# Altium footprint library 排针-排母.PcbLib: 215 footprints (part 3 of 14)
Each footprint in its own frame and in the unit in brackets; x right, y up, seen from the top. Pads: shape width x height; smd on the part's side, far side on the other; paste and mask are expansions set on the pad; w line width, h text height; cw(c..) or ccw(c..) is an arc to the next point about the centre after c.
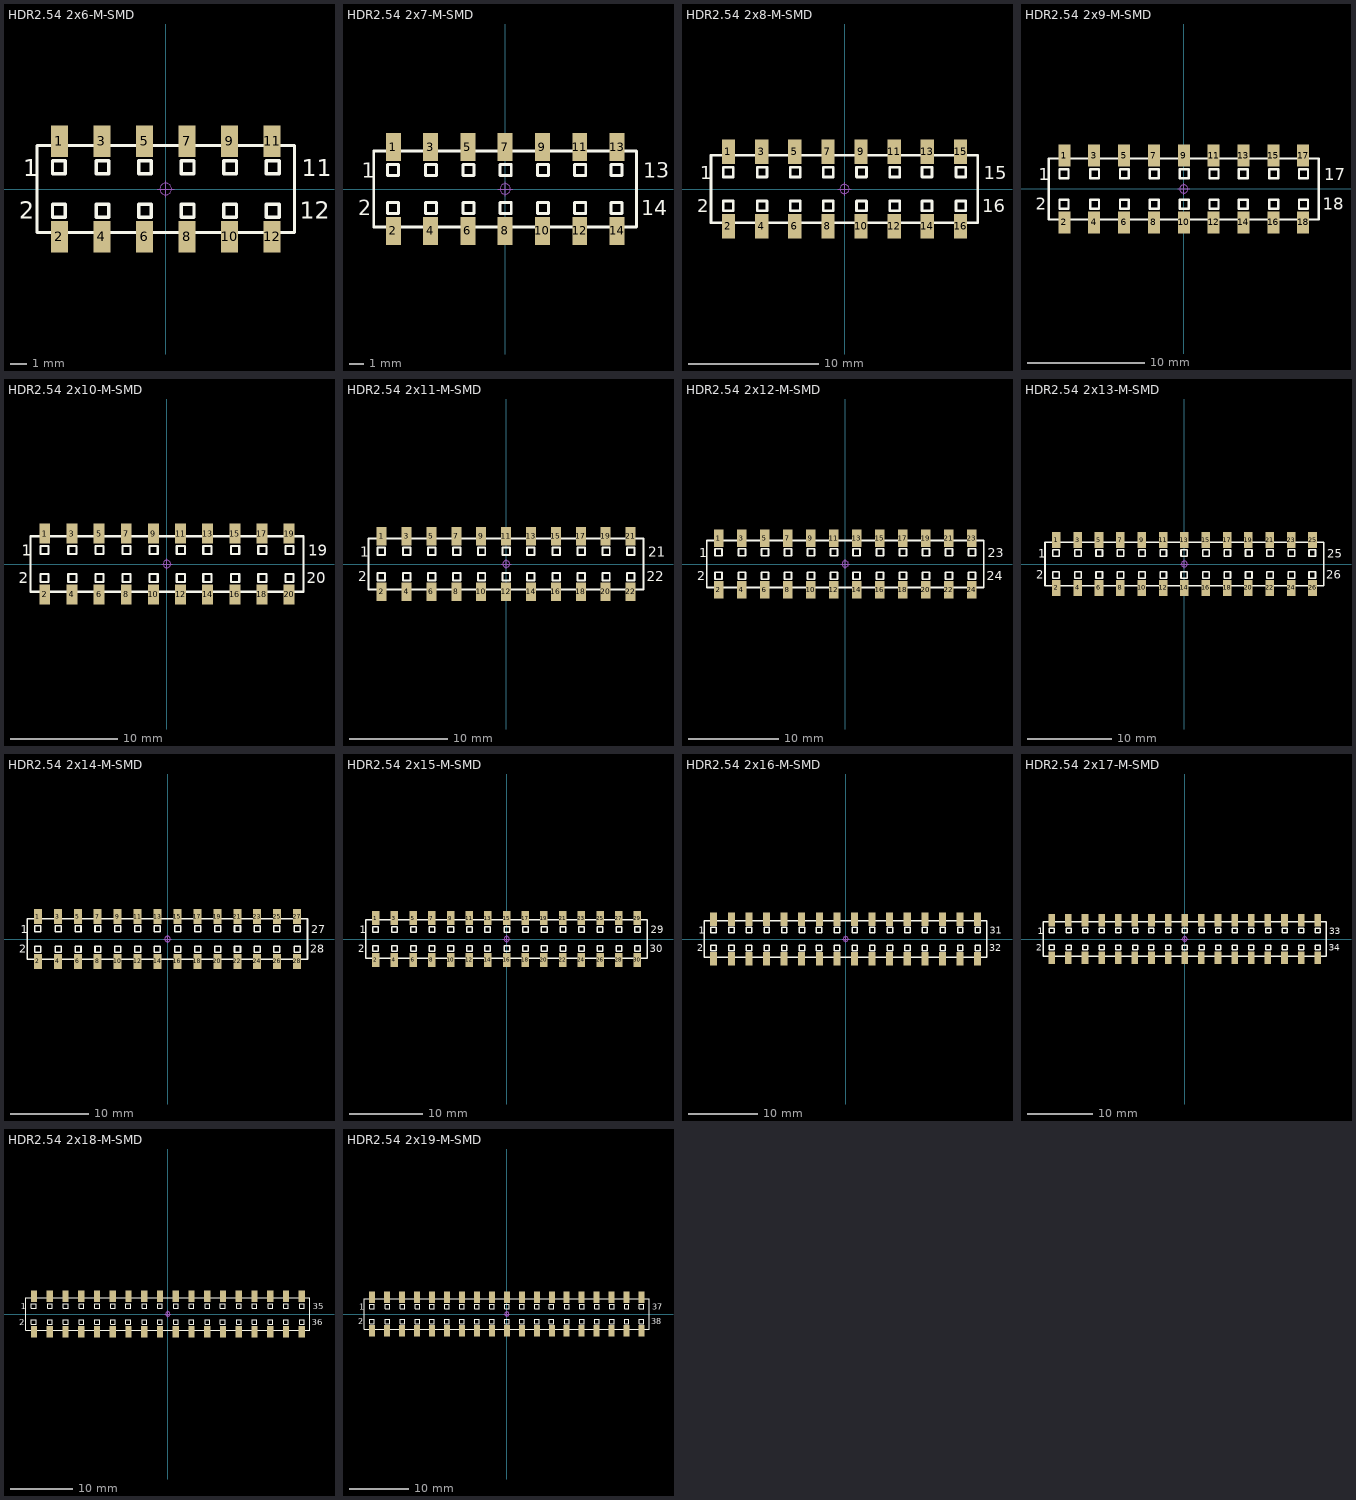
[diagram p2: the footprints below, top view; thin cyan lines are the x and y axes]

## HDR2.54 2x6-M-SMD [mm] "脚距：2.54mm，贴片双排母"
pads (12):
  rect 1.02x1.9 smd: 1(-6.35,2.85) 2(-6.35,-2.85) 3(-3.81,2.85) 4(-3.81,-2.85) 5(-1.27,2.85) 6(-1.27,-2.85) 7(1.27,2.85) 8(1.27,-2.85) 9(3.81,2.85) 10(3.81,-2.85) 11(6.35,2.85) 12(6.35,-2.85)
Top Overlay:
  lines w0.2: -7.69,-2.6 7.68,-2.6 7.68,2.6 -7.69,2.6 -7.69,-2.6 ; -6.761,-1.681 -5.999,-1.681 -5.999,-0.919 -6.761,-0.919 -6.761,-1.681 ; -6.761,0.919 -5.999,0.919 -5.999,1.681 -6.761,1.681 -6.761,0.919 ; -4.161,-1.681 -3.399,-1.681 -3.399,-0.919 -4.161,-0.919 -4.161,-1.681 ; -4.161,0.919 -3.399,0.919 -3.399,1.681 -4.161,1.681 -4.161,0.919 ; -1.621,-1.681 -1.621,-0.919 -0.859,-0.919 -0.859,-1.681 -1.621,-1.681 ; -1.621,0.919 -1.621,1.681 -0.859,1.681 -0.859,0.919 -1.621,0.919 ; 0.919,-1.681 1.681,-1.681 1.681,-0.919 0.919,-0.919 0.919,-1.681 ; 0.919,0.919 1.681,0.919 1.681,1.681 0.919,1.681 0.919,0.919 ; 3.459,-1.681 4.221,-1.681 4.221,-0.919 3.459,-0.919 3.459,-1.681 ; 3.459,0.919 4.221,0.919 4.221,1.681 3.459,1.681 3.459,0.919 ; 5.999,-1.681 6.761,-1.681 6.761,-0.919 5.999,-0.919 5.999,-1.681 ; 5.999,0.919 6.761,0.919 6.761,1.681 5.999,1.681 5.999,0.919
  text "2" at -8.763,-1.778 h1.02
  text "1" at -8.509,0.762 h1.02
  text "11" at 8.128,0.762 h1.02
  text "12" at 8.001,-1.778 h1.02
Mechanical 15:
  circle w0.05: c0,0 r0.35
  lines w0.05: -0.5,0 0.5,0 ; 0,-0.5 0,0.5
3D body "HDR2.54 2x1P_M.STEP": height 5.15, standoff 0, extent 5.05,-3.2 7.65,3.2
3D body "HDR2.54 2x1P_M.STEP": height 5.15, standoff 0, extent 2.51,-3.2 5.11,3.2
3D body "HDR2.54 2x1P_M.STEP": height 5.15, standoff 0, extent -0.03,-3.2 2.57,3.2
3D body "HDR2.54 2x1P_M.STEP": height 5.15, standoff 0, extent -7.65,-3.2 -5.05,3.2
3D body "HDR2.54 2x1P_M.STEP": height 5.15, standoff 0, extent -5.11,-3.2 -2.51,3.2
3D body "HDR2.54 2x1P_M.STEP": height 5.15, standoff 0, extent -2.57,-3.2 0.03,3.2

## HDR2.54 2x7-M-SMD [mm] "脚距：2.54mm，贴片双排母"
pads (14):
  rect 1.02x1.9 smd: 1(-7.62,2.85) 2(-7.62,-2.85) 3(-5.08,2.85) 4(-5.08,-2.85) 5(-2.54,2.85) 6(-2.54,-2.85) 7(0,2.85) 8(0,-2.85) 9(2.54,2.85) 10(2.54,-2.85) 11(5.08,2.85) 12(5.08,-2.85) 13(7.62,2.85) 14(7.62,-2.85)
Top Overlay:
  lines w0.2: -8.96,-2.6 -8.96,2.6 8.95,2.6 8.95,-2.6 -8.96,-2.6 ; -8.031,-1.681 -7.269,-1.681 -7.269,-0.919 -8.031,-0.919 -8.031,-1.681 ; -8.031,0.919 -7.269,0.919 -7.269,1.681 -8.031,1.681 -8.031,0.919 ; -5.431,-1.681 -4.669,-1.681 -4.669,-0.919 -5.431,-0.919 -5.431,-1.681 ; -5.431,0.919 -4.669,0.919 -4.669,1.681 -5.431,1.681 -5.431,0.919 ; -2.891,-1.681 -2.891,-0.919 -2.129,-0.919 -2.129,-1.681 -2.891,-1.681 ; -2.891,0.919 -2.891,1.681 -2.129,1.681 -2.129,0.919 -2.891,0.919 ; -0.351,-1.681 0.411,-1.681 0.411,-0.919 -0.351,-0.919 -0.351,-1.681 ; -0.351,0.919 0.411,0.919 0.411,1.681 -0.351,1.681 -0.351,0.919 ; 2.189,-1.681 2.951,-1.681 2.951,-0.919 2.189,-0.919 2.189,-1.681 ; 2.189,0.919 2.951,0.919 2.951,1.681 2.189,1.681 2.189,0.919 ; 4.729,-1.681 5.491,-1.681 5.491,-0.919 4.729,-0.919 4.729,-1.681 ; 4.729,0.919 5.491,0.919 5.491,1.681 4.729,1.681 4.729,0.919 ; 7.209,-1.681 7.209,-0.919 7.971,-0.919 7.971,-1.681 7.209,-1.681 ; 7.209,0.919 7.209,1.681 7.971,1.681 7.971,0.919 7.209,0.919
  text "14" at 9.271,-1.778 h1.02
  text "13" at 9.398,0.762 h1.02
  text "2" at -10.033,-1.778 h1.02
  text "1" at -9.779,0.762 h1.02
Mechanical 15:
  circle w0.05: c0,0 r0.35
  lines w0.05: -0.5,0 0.5,0 ; 0,-0.5 0,0.5
3D body "HDR2.54 2x1P_M.STEP": height 5.15, standoff 0, extent 6.32,-3.2 8.92,3.2
3D body "HDR2.54 2x1P_M.STEP": height 5.15, standoff 0, extent 3.78,-3.2 6.38,3.2
3D body "HDR2.54 2x1P_M.STEP": height 5.15, standoff 0, extent 1.24,-3.2 3.84,3.2
3D body "HDR2.54 2x1P_M.STEP": height 5.15, standoff 0, extent -1.3,-3.2 1.3,3.2
3D body "HDR2.54 2x1P_M.STEP": height 5.15, standoff 0, extent -8.92,-3.2 -6.32,3.2
3D body "HDR2.54 2x1P_M.STEP": height 5.15, standoff 0, extent -6.38,-3.2 -3.78,3.2
3D body "HDR2.54 2x1P_M.STEP": height 5.15, standoff 0, extent -3.84,-3.2 -1.24,3.2

## HDR2.54 2x8-M-SMD [mm] "脚距：2.54mm，贴片双排母"
pads (16):
  rect 1.02x1.9 smd: 1(-8.89,2.85) 2(-8.89,-2.85) 3(-6.35,2.85) 4(-6.35,-2.85) 5(-3.81,2.85) 6(-3.81,-2.85) 7(-1.27,2.85) 8(-1.27,-2.85) 9(1.27,2.85) 10(1.27,-2.85) 11(3.81,2.85) 12(3.81,-2.85) 13(6.35,2.85) 14(6.35,-2.85) 15(8.89,2.85) 16(8.89,-2.85)
Top Overlay:
  lines w0.2: -10.23,-2.6 -10.23,2.6 10.22,2.6 10.22,-2.6 -10.23,-2.6 ; -9.301,-1.681 -9.301,-0.919 -8.539,-0.919 -8.539,-1.681 -9.301,-1.681 ; -9.301,0.919 -9.301,1.681 -8.539,1.681 -8.539,0.919 -9.301,0.919 ; -6.701,-1.681 -6.701,-0.919 -5.939,-0.919 -5.939,-1.681 -6.701,-1.681 ; -6.701,0.919 -6.701,1.681 -5.939,1.681 -5.939,0.919 -6.701,0.919 ; -4.161,-1.681 -3.399,-1.681 -3.399,-0.919 -4.161,-0.919 -4.161,-1.681 ; -4.161,0.919 -3.399,0.919 -3.399,1.681 -4.161,1.681 -4.161,0.919 ; -1.621,-1.681 -1.621,-0.919 -0.859,-0.919 -0.859,-1.681 -1.621,-1.681 ; -1.621,0.919 -1.621,1.681 -0.859,1.681 -0.859,0.919 -1.621,0.919 ; 0.919,-1.681 0.919,-0.919 1.681,-0.919 1.681,-1.681 0.919,-1.681 ; 0.919,0.919 0.919,1.681 1.681,1.681 1.681,0.919 0.919,0.919 ; 3.459,-1.681 3.459,-0.919 4.221,-0.919 4.221,-1.681 3.459,-1.681 ; 3.459,0.919 3.459,1.681 4.221,1.681 4.221,0.919 3.459,0.919 ; 5.939,-1.681 6.701,-1.681 6.701,-0.919 5.939,-0.919 5.939,-1.681 ; 5.939,0.919 6.701,0.919 6.701,1.681 5.939,1.681 5.939,0.919 ; 8.539,-1.681 9.301,-1.681 9.301,-0.919 8.539,-0.919 8.539,-1.681 ; 8.539,0.919 9.301,0.919 9.301,1.681 8.539,1.681 8.539,0.919
  text "16" at 10.541,-1.778 h1.02
  text "15" at 10.668,0.762 h1.02
  text "1" at -11.049,0.762 h1.02
  text "2" at -11.303,-1.778 h1.02
Mechanical 15:
  circle w0.05: c0,0 r0.35
  lines w0.05: -0.5,0 0.5,0 ; 0,-0.5 0,0.5
3D body "HDR2.54 2x1P_M.STEP": height 5.15, standoff 0, extent -5.11,-3.2 -2.51,3.2
3D body "HDR2.54 2x1P_M.STEP": height 5.15, standoff 0, extent -7.65,-3.2 -5.05,3.2
3D body "HDR2.54 2x1P_M.STEP": height 5.15, standoff 0, extent -10.19,-3.2 -7.59,3.2
3D body "HDR2.54 2x1P_M.STEP": height 5.15, standoff 0, extent -2.57,-3.2 0.03,3.2
3D body "HDR2.54 2x1P_M.STEP": height 5.15, standoff 0, extent -0.03,-3.2 2.57,3.2
3D body "HDR2.54 2x1P_M.STEP": height 5.15, standoff 0, extent 2.51,-3.2 5.11,3.2
3D body "HDR2.54 2x1P_M.STEP": height 5.15, standoff 0, extent 5.05,-3.2 7.65,3.2
3D body "HDR2.54 2x1P_M.STEP": height 5.15, standoff 0, extent 7.59,-3.2 10.19,3.2

## HDR2.54 2x9-M-SMD [mm] "脚距：2.54mm，贴片双排母"
pads (18):
  rect 1.02x1.9 smd: 1(-10.16,2.85) 2(-10.16,-2.85) 3(-7.62,2.85) 4(-7.62,-2.85) 5(-5.08,2.85) 6(-5.08,-2.85) 7(-2.54,2.85) 8(-2.54,-2.85) 9(0,2.85) 10(0,-2.85) 11(2.54,2.85) 12(2.54,-2.85) 13(5.08,2.85) 14(5.08,-2.85) 15(7.62,2.85) 16(7.62,-2.85) 17(10.16,2.85) 18(10.16,-2.85)
Top Overlay:
  lines w0.2: -11.5,-2.6 11.49,-2.6 11.49,2.6 -11.5,2.6 -11.5,-2.6 ; -10.571,-1.681 -10.571,-0.919 -9.809,-0.919 -9.809,-1.681 -10.571,-1.681 ; -10.571,0.919 -10.571,1.681 -9.809,1.681 -9.809,0.919 -10.571,0.919 ; -7.971,-1.681 -7.971,-0.919 -7.209,-0.919 -7.209,-1.681 -7.971,-1.681 ; -7.971,0.919 -7.971,1.681 -7.209,1.681 -7.209,0.919 -7.971,0.919 ; -5.431,-1.681 -4.669,-1.681 -4.669,-0.919 -5.431,-0.919 -5.431,-1.681 ; -5.431,0.919 -4.669,0.919 -4.669,1.681 -5.431,1.681 -5.431,0.919 ; -2.891,-1.681 -2.891,-0.919 -2.129,-0.919 -2.129,-1.681 -2.891,-1.681 ; -2.891,0.919 -2.891,1.681 -2.129,1.681 -2.129,0.919 -2.891,0.919 ; -0.351,-1.681 -0.351,-0.919 0.411,-0.919 0.411,-1.681 -0.351,-1.681 ; -0.351,0.919 -0.351,1.681 0.411,1.681 0.411,0.919 -0.351,0.919 ; 2.189,-1.681 2.189,-0.919 2.951,-0.919 2.951,-1.681 2.189,-1.681 ; 2.189,0.919 2.189,1.681 2.951,1.681 2.951,0.919 2.189,0.919 ; 4.669,-1.681 5.431,-1.681 5.431,-0.919 4.669,-0.919 4.669,-1.681 ; 4.669,0.919 5.431,0.919 5.431,1.681 4.669,1.681 4.669,0.919 ; 7.269,-1.681 8.031,-1.681 8.031,-0.919 7.269,-0.919 7.269,-1.681 ; 7.269,0.919 8.031,0.919 8.031,1.681 7.269,1.681 7.269,0.919 ; 9.809,-1.681 9.809,-0.919 10.571,-0.919 10.571,-1.681 9.809,-1.681 ; 9.809,0.919 9.809,1.681 10.571,1.681 10.571,0.919 9.809,0.919
  text "1" at -12.319,0.762 h1.02
  text "2" at -12.573,-1.778 h1.02
  text "17" at 11.938,0.762 h1.02
  text "18" at 11.811,-1.778 h1.02
Mechanical 15:
  circle w0.05: c0,0 r0.35
  lines w0.05: -0.5,0 0.5,0 ; 0,-0.5 0,0.5
3D body "HDR2.54 2x1P_M.STEP": height 5.15, standoff 0, extent -6.38,-3.2 -3.78,3.2
3D body "HDR2.54 2x1P_M.STEP": height 5.15, standoff 0, extent -8.92,-3.2 -6.32,3.2
3D body "HDR2.54 2x1P_M.STEP": height 5.15, standoff 0, extent -11.46,-3.2 -8.86,3.2
3D body "HDR2.54 2x1P_M.STEP": height 5.15, standoff 0, extent -3.84,-3.2 -1.24,3.2
3D body "HDR2.54 2x1P_M.STEP": height 5.15, standoff 0, extent -1.3,-3.2 1.3,3.2
3D body "HDR2.54 2x1P_M.STEP": height 5.15, standoff 0, extent 1.24,-3.2 3.84,3.2
3D body "HDR2.54 2x1P_M.STEP": height 5.15, standoff 0, extent 3.78,-3.2 6.38,3.2
3D body "HDR2.54 2x1P_M.STEP": height 5.15, standoff 0, extent 6.32,-3.2 8.92,3.2
3D body "HDR2.54 2x1P_M.STEP": height 5.15, standoff 0, extent 8.86,-3.2 11.46,3.2

## HDR2.54 2x10-M-SMD [mm] "脚距：2.54mm，贴片双排母"
pads (20):
  rect 1.02x1.9 smd: 1(-11.43,2.85) 2(-11.43,-2.85) 3(-8.89,2.85) 4(-8.89,-2.85) 5(-6.35,2.85) 6(-6.35,-2.85) 7(-3.81,2.85) 8(-3.81,-2.85) 9(-1.27,2.85) 10(-1.27,-2.85) 11(1.27,2.85) 12(1.27,-2.85) 13(3.81,2.85) 14(3.81,-2.85) 15(6.35,2.85) 16(6.35,-2.85) 17(8.89,2.85) 18(8.89,-2.85) 19(11.43,2.85) 20(11.43,-2.85)
Top Overlay:
  lines w0.2: -12.77,-2.6 12.76,-2.6 12.76,2.6 -12.77,2.6 -12.77,-2.6 ; -11.841,-1.681 -11.841,-0.919 -11.079,-0.919 -11.079,-1.681 -11.841,-1.681 ; -11.841,0.919 -11.841,1.681 -11.079,1.681 -11.079,0.919 -11.841,0.919 ; -9.241,-1.681 -9.241,-0.919 -8.479,-0.919 -8.479,-1.681 -9.241,-1.681 ; -9.241,0.919 -9.241,1.681 -8.479,1.681 -8.479,0.919 -9.241,0.919 ; -6.701,-1.681 -5.939,-1.681 -5.939,-0.919 -6.701,-0.919 -6.701,-1.681 ; -6.701,0.919 -5.939,0.919 -5.939,1.681 -6.701,1.681 -6.701,0.919 ; -4.161,-1.681 -4.161,-0.919 -3.399,-0.919 -3.399,-1.681 -4.161,-1.681 ; -4.161,0.919 -4.161,1.681 -3.399,1.681 -3.399,0.919 -4.161,0.919 ; -1.621,-1.681 -1.621,-0.919 -0.859,-0.919 -0.859,-1.681 -1.621,-1.681 ; -1.621,0.919 -1.621,1.681 -0.859,1.681 -0.859,0.919 -1.621,0.919 ; 0.919,-1.681 0.919,-0.919 1.681,-0.919 1.681,-1.681 0.919,-1.681 ; 0.919,0.919 0.919,1.681 1.681,1.681 1.681,0.919 0.919,0.919 ; 3.399,-1.681 4.161,-1.681 4.161,-0.919 3.399,-0.919 3.399,-1.681 ; 3.399,0.919 4.161,0.919 4.161,1.681 3.399,1.681 3.399,0.919 ; 5.999,-1.681 6.761,-1.681 6.761,-0.919 5.999,-0.919 5.999,-1.681 ; 5.999,0.919 6.761,0.919 6.761,1.681 5.999,1.681 5.999,0.919 ; 8.539,-1.681 8.539,-0.919 9.301,-0.919 9.301,-1.681 8.539,-1.681 ; 8.539,0.919 8.539,1.681 9.301,1.681 9.301,0.919 8.539,0.919 ; 11.079,-1.681 11.841,-1.681 11.841,-0.919 11.079,-0.919 11.079,-1.681 ; 11.079,0.919 11.841,0.919 11.841,1.681 11.079,1.681 11.079,0.919
  text "20" at 13.081,-1.778 h1.02
  text "19" at 13.208,0.762 h1.02
  text "1" at -13.589,0.762 h1.02
  text "2" at -13.843,-1.778 h1.02
Mechanical 15:
  circle w0.05: c0,0 r0.35
  lines w0.05: -0.5,0 0.5,0 ; 0,-0.5 0,0.5
3D body "HDR2.54 2x1P_M.STEP": height 5.15, standoff 0, extent -7.65,-3.2 -5.05,3.2
3D body "HDR2.54 2x1P_M.STEP": height 5.15, standoff 0, extent -10.19,-3.2 -7.59,3.2
3D body "HDR2.54 2x1P_M.STEP": height 5.15, standoff 0, extent -12.73,-3.2 -10.13,3.2
3D body "HDR2.54 2x1P_M.STEP": height 5.15, standoff 0, extent -5.11,-3.2 -2.51,3.2
3D body "HDR2.54 2x1P_M.STEP": height 5.15, standoff 0, extent -2.57,-3.2 0.03,3.2
3D body "HDR2.54 2x1P_M.STEP": height 5.15, standoff 0, extent -0.03,-3.2 2.57,3.2
3D body "HDR2.54 2x1P_M.STEP": height 5.15, standoff 0, extent 2.51,-3.2 5.11,3.2
3D body "HDR2.54 2x1P_M.STEP": height 5.15, standoff 0, extent 5.05,-3.2 7.65,3.2
3D body "HDR2.54 2x1P_M.STEP": height 5.15, standoff 0, extent 7.59,-3.2 10.19,3.2
3D body "HDR2.54 2x1P_M.STEP": height 5.15, standoff 0, extent 10.13,-3.2 12.73,3.2

## HDR2.54 2x11-M-SMD [mm] "脚距：2.54mm，贴片双排母"
pads (22):
  rect 1.02x1.9 smd: 1(-12.7,2.85) 2(-12.7,-2.85) 3(-10.16,2.85) 4(-10.16,-2.85) 5(-7.62,2.85) 6(-7.62,-2.85) 7(-5.08,2.85) 8(-5.08,-2.85) 9(-2.54,2.85) 10(-2.54,-2.85) 11(0,2.85) 12(0,-2.85) 13(2.54,2.85) 14(2.54,-2.85) 15(5.08,2.85) 16(5.08,-2.85) 17(7.62,2.85) 18(7.62,-2.85) 19(10.16,2.85) 20(10.16,-2.85) 21(12.7,2.85) 22(12.7,-2.85)
Top Overlay:
  lines w0.2: -14.04,-2.6 -14.04,2.6 14.03,2.6 14.03,-2.6 -14.04,-2.6 ; -13.111,-1.681 -13.111,-0.919 -12.349,-0.919 -12.349,-1.681 -13.111,-1.681 ; -13.111,0.919 -13.111,1.681 -12.349,1.681 -12.349,0.919 -13.111,0.919 ; -10.511,-1.681 -10.511,-0.919 -9.749,-0.919 -9.749,-1.681 -10.511,-1.681 ; -10.511,0.919 -10.511,1.681 -9.749,1.681 -9.749,0.919 -10.511,0.919 ; -7.971,-1.681 -7.209,-1.681 -7.209,-0.919 -7.971,-0.919 -7.971,-1.681 ; -7.971,0.919 -7.209,0.919 -7.209,1.681 -7.971,1.681 -7.971,0.919 ; -5.431,-1.681 -5.431,-0.919 -4.669,-0.919 -4.669,-1.681 -5.431,-1.681 ; -5.431,0.919 -5.431,1.681 -4.669,1.681 -4.669,0.919 -5.431,0.919 ; -2.891,-1.681 -2.891,-0.919 -2.129,-0.919 -2.129,-1.681 -2.891,-1.681 ; -2.891,0.919 -2.891,1.681 -2.129,1.681 -2.129,0.919 -2.891,0.919 ; -0.351,-1.681 -0.351,-0.919 0.411,-0.919 0.411,-1.681 -0.351,-1.681 ; -0.351,0.919 -0.351,1.681 0.411,1.681 0.411,0.919 -0.351,0.919 ; 2.129,-1.681 2.891,-1.681 2.891,-0.919 2.129,-0.919 2.129,-1.681 ; 2.129,0.919 2.891,0.919 2.891,1.681 2.129,1.681 2.129,0.919 ; 4.729,-1.681 5.491,-1.681 5.491,-0.919 4.729,-0.919 4.729,-1.681 ; 4.729,0.919 5.491,0.919 5.491,1.681 4.729,1.681 4.729,0.919 ; 7.269,-1.681 7.269,-0.919 8.031,-0.919 8.031,-1.681 7.269,-1.681 ; 7.269,0.919 7.269,1.681 8.031,1.681 8.031,0.919 7.269,0.919 ; 9.809,-1.681 10.571,-1.681 10.571,-0.919 9.809,-0.919 9.809,-1.681 ; 9.809,0.919 10.571,0.919 10.571,1.681 9.809,1.681 9.809,0.919 ; 12.349,-1.681 13.111,-1.681 13.111,-0.919 12.349,-0.919 12.349,-1.681 ; 12.349,0.919 13.111,0.919 13.111,1.681 12.349,1.681 12.349,0.919
  text "1" at -14.859,0.762 h1.02
  text "2" at -15.113,-1.778 h1.02
  text "21" at 14.478,0.762 h1.02
  text "22" at 14.351,-1.778 h1.02
Mechanical 15:
  circle w0.05: c0,0 r0.35
  lines w0.05: -0.5,0 0.5,0 ; 0,-0.5 0,0.5
3D body "HDR2.54 2x1P_M.STEP": height 5.15, standoff 0, extent -8.92,-3.2 -6.32,3.2
3D body "HDR2.54 2x1P_M.STEP": height 5.15, standoff 0, extent -11.46,-3.2 -8.86,3.2
3D body "HDR2.54 2x1P_M.STEP": height 5.15, standoff 0, extent -14,-3.2 -11.4,3.2
3D body "HDR2.54 2x1P_M.STEP": height 5.15, standoff 0, extent -6.38,-3.2 -3.78,3.2
3D body "HDR2.54 2x1P_M.STEP": height 5.15, standoff 0, extent -3.84,-3.2 -1.24,3.2
3D body "HDR2.54 2x1P_M.STEP": height 5.15, standoff 0, extent -1.3,-3.2 1.3,3.2
3D body "HDR2.54 2x1P_M.STEP": height 5.15, standoff 0, extent 1.24,-3.2 3.84,3.2
3D body "HDR2.54 2x1P_M.STEP": height 5.15, standoff 0, extent 3.78,-3.2 6.38,3.2
3D body "HDR2.54 2x1P_M.STEP": height 5.15, standoff 0, extent 6.32,-3.2 8.92,3.2
3D body "HDR2.54 2x1P_M.STEP": height 5.15, standoff 0, extent 8.86,-3.2 11.46,3.2
3D body "HDR2.54 2x1P_M.STEP": height 5.15, standoff 0, extent 11.4,-3.2 14,3.2

## HDR2.54 2x12-M-SMD [mm] "脚距：2.54mm，贴片双排母"
pads (24):
  rect 1.02x1.9 smd: 1(-13.97,2.85) 2(-13.97,-2.85) 3(-11.43,2.85) 4(-11.43,-2.85) 5(-8.89,2.85) 6(-8.89,-2.85) 7(-6.35,2.85) 8(-6.35,-2.85) 9(-3.81,2.85) 10(-3.81,-2.85) 11(-1.27,2.85) 12(-1.27,-2.85) 13(1.27,2.85) 14(1.27,-2.85) 15(3.81,2.85) 16(3.81,-2.85) 17(6.35,2.85) 18(6.35,-2.85) 19(8.89,2.85) 20(8.89,-2.85) 21(11.43,2.85) 22(11.43,-2.85) 23(13.97,2.85) 24(13.97,-2.85)
Top Overlay:
  lines w0.2: -15.31,-2.6 15.3,-2.6 15.3,2.6 -15.31,2.6 -15.31,-2.6 ; -14.381,-1.681 -14.381,-0.919 -13.619,-0.919 -13.619,-1.681 -14.381,-1.681 ; -14.381,0.919 -14.381,1.681 -13.619,1.681 -13.619,0.919 -14.381,0.919 ; -11.781,-1.681 -11.781,-0.919 -11.019,-0.919 -11.019,-1.681 -11.781,-1.681 ; -11.781,0.919 -11.781,1.681 -11.019,1.681 -11.019,0.919 -11.781,0.919 ; -9.241,-1.681 -8.479,-1.681 -8.479,-0.919 -9.241,-0.919 -9.241,-1.681 ; -9.241,0.919 -8.479,0.919 -8.479,1.681 -9.241,1.681 -9.241,0.919 ; -6.701,-1.681 -6.701,-0.919 -5.939,-0.919 -5.939,-1.681 -6.701,-1.681 ; -6.701,0.919 -6.701,1.681 -5.939,1.681 -5.939,0.919 -6.701,0.919 ; -4.161,-1.681 -4.161,-0.919 -3.399,-0.919 -3.399,-1.681 -4.161,-1.681 ; -4.161,0.919 -4.161,1.681 -3.399,1.681 -3.399,0.919 -4.161,0.919 ; -1.621,-1.681 -1.621,-0.919 -0.859,-0.919 -0.859,-1.681 -1.621,-1.681 ; -1.621,0.919 -1.621,1.681 -0.859,1.681 -0.859,0.919 -1.621,0.919 ; 0.859,-1.681 1.621,-1.681 1.621,-0.919 0.859,-0.919 0.859,-1.681 ; 0.859,0.919 1.621,0.919 1.621,1.681 0.859,1.681 0.859,0.919 ; 3.459,-1.681 4.221,-1.681 4.221,-0.919 3.459,-0.919 3.459,-1.681 ; 3.459,0.919 4.221,0.919 4.221,1.681 3.459,1.681 3.459,0.919 ; 5.999,-1.681 5.999,-0.919 6.761,-0.919 6.761,-1.681 5.999,-1.681 ; 5.999,0.919 5.999,1.681 6.761,1.681 6.761,0.919 5.999,0.919 ; 8.539,-1.681 9.301,-1.681 9.301,-0.919 8.539,-0.919 8.539,-1.681 ; 8.539,0.919 9.301,0.919 9.301,1.681 8.539,1.681 8.539,0.919 ; 11.079,-1.681 11.841,-1.681 11.841,-0.919 11.079,-0.919 11.079,-1.681 ; 11.079,0.919 11.841,0.919 11.841,1.681 11.079,1.681 11.079,0.919 ; 13.619,-1.681 14.381,-1.681 14.381,-0.919 13.619,-0.919 13.619,-1.681 ; 13.619,0.919 14.381,0.919 14.381,1.681 13.619,1.681 13.619,0.919
  text "24" at 15.621,-1.778 h1.02
  text "23" at 15.748,0.762 h1.02
  text "1" at -16.129,0.762 h1.02
  text "2" at -16.383,-1.778 h1.02
Mechanical 15:
  circle w0.05: c0,0 r0.35
  lines w0.05: -0.5,0 0.5,0 ; 0,-0.5 0,0.5
3D body "HDR2.54 2x1P_M.STEP": height 5.15, standoff 0, extent -10.19,-3.2 -7.59,3.2
3D body "HDR2.54 2x1P_M.STEP": height 5.15, standoff 0, extent -12.73,-3.2 -10.13,3.2
3D body "HDR2.54 2x1P_M.STEP": height 5.15, standoff 0, extent -15.27,-3.2 -12.67,3.2
3D body "HDR2.54 2x1P_M.STEP": height 5.15, standoff 0, extent -7.65,-3.2 -5.05,3.2
3D body "HDR2.54 2x1P_M.STEP": height 5.15, standoff 0, extent -5.11,-3.2 -2.51,3.2
3D body "HDR2.54 2x1P_M.STEP": height 5.15, standoff 0, extent -2.57,-3.2 0.03,3.2
3D body "HDR2.54 2x1P_M.STEP": height 5.15, standoff 0, extent -0.03,-3.2 2.57,3.2
3D body "HDR2.54 2x1P_M.STEP": height 5.15, standoff 0, extent 2.51,-3.2 5.11,3.2
3D body "HDR2.54 2x1P_M.STEP": height 5.15, standoff 0, extent 5.05,-3.2 7.65,3.2
3D body "HDR2.54 2x1P_M.STEP": height 5.15, standoff 0, extent 7.59,-3.2 10.19,3.2
3D body "HDR2.54 2x1P_M.STEP": height 5.15, standoff 0, extent 10.13,-3.2 12.73,3.2
3D body "HDR2.54 2x1P_M.STEP": height 5.15, standoff 0, extent 12.67,-3.2 15.27,3.2

## HDR2.54 2x13-M-SMD [mm] "脚距：2.54mm，贴片双排母"
pads (26):
  rect 1.02x1.9 smd: 1(-15.24,2.85) 2(-15.24,-2.85) 3(-12.7,2.85) 4(-12.7,-2.85) 5(-10.16,2.85) 6(-10.16,-2.85) 7(-7.62,2.85) 8(-7.62,-2.85) 9(-5.08,2.85) 10(-5.08,-2.85) 11(-2.54,2.85) 12(-2.54,-2.85) 13(0,2.85) 14(0,-2.85) 15(2.54,2.85) 16(2.54,-2.85) 17(5.08,2.85) 18(5.08,-2.85) 19(7.62,2.85) 20(7.62,-2.85) 21(10.16,2.85) 22(10.16,-2.85) 23(12.7,2.85) 24(12.7,-2.85) 25(15.24,2.85) 26(15.24,-2.85)
Top Overlay:
  lines w0.2: -16.58,-2.6 16.57,-2.6 16.57,2.6 -16.58,2.6 -16.58,-2.6 ; -15.651,-1.681 -14.889,-1.681 -14.889,-0.919 -15.651,-0.919 -15.651,-1.681 ; -15.651,0.919 -14.889,0.919 -14.889,1.681 -15.651,1.681 -15.651,0.919 ; -13.051,-1.681 -12.289,-1.681 -12.289,-0.919 -13.051,-0.919 -13.051,-1.681 ; -13.051,0.919 -12.289,0.919 -12.289,1.681 -13.051,1.681 -13.051,0.919 ; -10.511,-1.681 -10.511,-0.919 -9.749,-0.919 -9.749,-1.681 -10.511,-1.681 ; -10.511,0.919 -10.511,1.681 -9.749,1.681 -9.749,0.919 -10.511,0.919 ; -7.971,-1.681 -7.209,-1.681 -7.209,-0.919 -7.971,-0.919 -7.971,-1.681 ; -7.971,0.919 -7.209,0.919 -7.209,1.681 -7.971,1.681 -7.971,0.919 ; -5.431,-1.681 -4.669,-1.681 -4.669,-0.919 -5.431,-0.919 -5.431,-1.681 ; -5.431,0.919 -4.669,0.919 -4.669,1.681 -5.431,1.681 -5.431,0.919 ; -2.891,-1.681 -2.129,-1.681 -2.129,-0.919 -2.891,-0.919 -2.891,-1.681 ; -2.891,0.919 -2.129,0.919 -2.129,1.681 -2.891,1.681 -2.891,0.919 ; -0.411,-1.681 -0.411,-0.919 0.351,-0.919 0.351,-1.681 -0.411,-1.681 ; -0.411,0.919 -0.411,1.681 0.351,1.681 0.351,0.919 -0.411,0.919 ; 2.189,-1.681 2.189,-0.919 2.951,-0.919 2.951,-1.681 2.189,-1.681 ; 2.189,0.919 2.189,1.681 2.951,1.681 2.951,0.919 2.189,0.919 ; 4.729,-1.681 5.491,-1.681 5.491,-0.919 4.729,-0.919 4.729,-1.681 ; 4.729,0.919 5.491,0.919 5.491,1.681 4.729,1.681 4.729,0.919 ; 7.269,-1.681 7.269,-0.919 8.031,-0.919 8.031,-1.681 7.269,-1.681 ; 7.269,0.919 7.269,1.681 8.031,1.681 8.031,0.919 7.269,0.919 ; 9.809,-1.681 9.809,-0.919 10.571,-0.919 10.571,-1.681 9.809,-1.681 ; 9.809,0.919 9.809,1.681 10.571,1.681 10.571,0.919 9.809,0.919 ; 12.349,-1.681 12.349,-0.919 13.111,-0.919 13.111,-1.681 12.349,-1.681 ; 12.349,0.919 12.349,1.681 13.111,1.681 13.111,0.919 12.349,0.919 ; 14.829,-1.681 14.829,-0.919 15.591,-0.919 15.591,-1.681 14.829,-1.681 ; 14.829,0.919 14.829,1.681 15.591,1.681 15.591,0.919 14.829,0.919
  text "26" at 16.891,-1.778 h1.02
  text "25" at 17.018,0.762 h1.02
  text "2" at -17.653,-1.778 h1.02
  text "1" at -17.399,0.762 h1.02
Mechanical 15:
  circle w0.05: c0,0 r0.35
  lines w0.05: -0.5,0 0.5,0 ; 0,-0.5 0,0.5
3D body "HDR2.54 2x1P_M.STEP": height 5.15, standoff 0, extent 13.94,-3.2 16.54,3.2
3D body "HDR2.54 2x1P_M.STEP": height 5.15, standoff 0, extent 11.4,-3.2 14,3.2
3D body "HDR2.54 2x1P_M.STEP": height 5.15, standoff 0, extent 8.86,-3.2 11.46,3.2
3D body "HDR2.54 2x1P_M.STEP": height 5.15, standoff 0, extent 6.32,-3.2 8.92,3.2
3D body "HDR2.54 2x1P_M.STEP": height 5.15, standoff 0, extent 3.78,-3.2 6.38,3.2
3D body "HDR2.54 2x1P_M.STEP": height 5.15, standoff 0, extent 1.24,-3.2 3.84,3.2
3D body "HDR2.54 2x1P_M.STEP": height 5.15, standoff 0, extent -1.3,-3.2 1.3,3.2
3D body "HDR2.54 2x1P_M.STEP": height 5.15, standoff 0, extent -3.84,-3.2 -1.24,3.2
3D body "HDR2.54 2x1P_M.STEP": height 5.15, standoff 0, extent -6.38,-3.2 -3.78,3.2
3D body "HDR2.54 2x1P_M.STEP": height 5.15, standoff 0, extent -8.92,-3.2 -6.32,3.2
3D body "HDR2.54 2x1P_M.STEP": height 5.15, standoff 0, extent -16.54,-3.2 -13.94,3.2
3D body "HDR2.54 2x1P_M.STEP": height 5.15, standoff 0, extent -14,-3.2 -11.4,3.2
3D body "HDR2.54 2x1P_M.STEP": height 5.15, standoff 0, extent -11.46,-3.2 -8.86,3.2

## HDR2.54 2x14-M-SMD [mm] "脚距：2.54mm，贴片双排母"
pads (28):
  rect 1.02x1.9 smd: 1(-16.51,2.85) 2(-16.51,-2.85) 3(-13.97,2.85) 4(-13.97,-2.85) 5(-11.43,2.85) 6(-11.43,-2.85) 7(-8.89,2.85) 8(-8.89,-2.85) 9(-6.35,2.85) 10(-6.35,-2.85) 11(-3.81,2.85) 12(-3.81,-2.85) 13(-1.27,2.85) 14(-1.27,-2.85) 15(1.27,2.85) 16(1.27,-2.85) 17(3.81,2.85) 18(3.81,-2.85) 19(6.35,2.85) 20(6.35,-2.85) 21(8.89,2.85) 22(8.89,-2.85) 23(11.43,2.85) 24(11.43,-2.85) 25(13.97,2.85) 26(13.97,-2.85) 27(16.51,2.85) 28(16.51,-2.85)
Top Overlay:
  lines w0.2: -17.85,-2.6 17.84,-2.6 17.84,2.6 -17.85,2.6 -17.85,-2.6 ; -16.921,-1.681 -16.921,-0.919 -16.159,-0.919 -16.159,-1.681 -16.921,-1.681 ; -16.921,0.919 -16.921,1.681 -16.159,1.681 -16.159,0.919 -16.921,0.919 ; -14.321,-1.681 -14.321,-0.919 -13.559,-0.919 -13.559,-1.681 -14.321,-1.681 ; -14.321,0.919 -14.321,1.681 -13.559,1.681 -13.559,0.919 -14.321,0.919 ; -11.781,-1.681 -11.019,-1.681 -11.019,-0.919 -11.781,-0.919 -11.781,-1.681 ; -11.781,0.919 -11.019,0.919 -11.019,1.681 -11.781,1.681 -11.781,0.919 ; -9.241,-1.681 -9.241,-0.919 -8.479,-0.919 -8.479,-1.681 -9.241,-1.681 ; -9.241,0.919 -9.241,1.681 -8.479,1.681 -8.479,0.919 -9.241,0.919 ; -6.701,-1.681 -6.701,-0.919 -5.939,-0.919 -5.939,-1.681 -6.701,-1.681 ; -6.701,0.919 -6.701,1.681 -5.939,1.681 -5.939,0.919 -6.701,0.919 ; -4.161,-1.681 -4.161,-0.919 -3.399,-0.919 -3.399,-1.681 -4.161,-1.681 ; -4.161,0.919 -4.161,1.681 -3.399,1.681 -3.399,0.919 -4.161,0.919 ; -1.681,-1.681 -0.919,-1.681 -0.919,-0.919 -1.681,-0.919 -1.681,-1.681 ; -1.681,0.919 -0.919,0.919 -0.919,1.681 -1.681,1.681 -1.681,0.919 ; 0.919,-1.681 1.681,-1.681 1.681,-0.919 0.919,-0.919 0.919,-1.681 ; 0.919,0.919 1.681,0.919 1.681,1.681 0.919,1.681 0.919,0.919 ; 3.459,-1.681 3.459,-0.919 4.221,-0.919 4.221,-1.681 3.459,-1.681 ; 3.459,0.919 3.459,1.681 4.221,1.681 4.221,0.919 3.459,0.919 ; 5.999,-1.681 6.761,-1.681 6.761,-0.919 5.999,-0.919 5.999,-1.681 ; 5.999,0.919 6.761,0.919 6.761,1.681 5.999,1.681 5.999,0.919 ; 8.539,-1.681 9.301,-1.681 9.301,-0.919 8.539,-0.919 8.539,-1.681 ; 8.539,0.919 9.301,0.919 9.301,1.681 8.539,1.681 8.539,0.919 ; 11.079,-1.681 11.841,-1.681 11.841,-0.919 11.079,-0.919 11.079,-1.681 ; 11.079,0.919 11.841,0.919 11.841,1.681 11.079,1.681 11.079,0.919 ; 13.559,-1.681 14.321,-1.681 14.321,-0.919 13.559,-0.919 13.559,-1.681 ; 13.559,0.919 14.321,0.919 14.321,1.681 13.559,1.681 13.559,0.919 ; 16.159,-1.681 16.921,-1.681 16.921,-0.919 16.159,-0.919 16.159,-1.681 ; 16.159,0.919 16.921,0.919 16.921,1.681 16.159,1.681 16.159,0.919
  text "1" at -18.669,0.762 h1.02
  text "2" at -18.923,-1.778 h1.02
  text "28" at 18.161,-1.778 h1.02
  text "27" at 18.288,0.762 h1.02
Mechanical 15:
  circle w0.05: c0,0 r0.35
  lines w0.05: -0.5,0 0.5,0 ; 0,-0.5 0,0.5
3D body "HDR2.54 2x1P_M.STEP": height 5.15, standoff 0, extent -12.73,-3.2 -10.13,3.2
3D body "HDR2.54 2x1P_M.STEP": height 5.15, standoff 0, extent -15.27,-3.2 -12.67,3.2
3D body "HDR2.54 2x1P_M.STEP": height 5.15, standoff 0, extent -17.81,-3.2 -15.21,3.2
3D body "HDR2.54 2x1P_M.STEP": height 5.15, standoff 0, extent -10.19,-3.2 -7.59,3.2
3D body "HDR2.54 2x1P_M.STEP": height 5.15, standoff 0, extent -7.65,-3.2 -5.05,3.2
3D body "HDR2.54 2x1P_M.STEP": height 5.15, standoff 0, extent -5.11,-3.2 -2.51,3.2
3D body "HDR2.54 2x1P_M.STEP": height 5.15, standoff 0, extent -2.57,-3.2 0.03,3.2
3D body "HDR2.54 2x1P_M.STEP": height 5.15, standoff 0, extent -0.03,-3.2 2.57,3.2
3D body "HDR2.54 2x1P_M.STEP": height 5.15, standoff 0, extent 2.51,-3.2 5.11,3.2
3D body "HDR2.54 2x1P_M.STEP": height 5.15, standoff 0, extent 5.05,-3.2 7.65,3.2
3D body "HDR2.54 2x1P_M.STEP": height 5.15, standoff 0, extent 7.59,-3.2 10.19,3.2
3D body "HDR2.54 2x1P_M.STEP": height 5.15, standoff 0, extent 10.13,-3.2 12.73,3.2
3D body "HDR2.54 2x1P_M.STEP": height 5.15, standoff 0, extent 12.67,-3.2 15.27,3.2
3D body "HDR2.54 2x1P_M.STEP": height 5.15, standoff 0, extent 15.21,-3.2 17.81,3.2

## HDR2.54 2x15-M-SMD [mm] "脚距：2.54mm，贴片双排母"
pads (30):
  rect 1.02x1.9 smd: 1(-17.78,2.85) 2(-17.78,-2.85) 3(-15.24,2.85) 4(-15.24,-2.85) 5(-12.7,2.85) 6(-12.7,-2.85) 7(-10.16,2.85) 8(-10.16,-2.85) 9(-7.62,2.85) 10(-7.62,-2.85) 11(-5.08,2.85) 12(-5.08,-2.85) 13(-2.54,2.85) 14(-2.54,-2.85) 15(0,2.85) 16(0,-2.85) 17(2.54,2.85) 18(2.54,-2.85) 19(5.08,2.85) 20(5.08,-2.85) 21(7.62,2.85) 22(7.62,-2.85) 23(10.16,2.85) 24(10.16,-2.85) 25(12.7,2.85) 26(12.7,-2.85) 27(15.24,2.85) 28(15.24,-2.85) 29(17.78,2.85) 30(17.78,-2.85)
Top Overlay:
  lines w0.2: -19.12,-2.6 19.11,-2.6 19.11,2.6 -19.12,2.6 -19.12,-2.6 ; -18.191,-1.681 -18.191,-0.919 -17.429,-0.919 -17.429,-1.681 -18.191,-1.681 ; -18.191,0.919 -18.191,1.681 -17.429,1.681 -17.429,0.919 -18.191,0.919 ; -15.591,-1.681 -15.591,-0.919 -14.829,-0.919 -14.829,-1.681 -15.591,-1.681 ; -15.591,0.919 -15.591,1.681 -14.829,1.681 -14.829,0.919 -15.591,0.919 ; -13.051,-1.681 -12.289,-1.681 -12.289,-0.919 -13.051,-0.919 -13.051,-1.681 ; -13.051,0.919 -12.289,0.919 -12.289,1.681 -13.051,1.681 -13.051,0.919 ; -10.511,-1.681 -10.511,-0.919 -9.749,-0.919 -9.749,-1.681 -10.511,-1.681 ; -10.511,0.919 -10.511,1.681 -9.749,1.681 -9.749,0.919 -10.511,0.919 ; -7.971,-1.681 -7.971,-0.919 -7.209,-0.919 -7.209,-1.681 -7.971,-1.681 ; -7.971,0.919 -7.971,1.681 -7.209,1.681 -7.209,0.919 -7.971,0.919 ; -5.431,-1.681 -5.431,-0.919 -4.669,-0.919 -4.669,-1.681 -5.431,-1.681 ; -5.431,0.919 -5.431,1.681 -4.669,1.681 -4.669,0.919 -5.431,0.919 ; -2.951,-1.681 -2.189,-1.681 -2.189,-0.919 -2.951,-0.919 -2.951,-1.681 ; -2.951,0.919 -2.189,0.919 -2.189,1.681 -2.951,1.681 -2.951,0.919 ; -0.351,-1.681 0.411,-1.681 0.411,-0.919 -0.351,-0.919 -0.351,-1.681 ; -0.351,0.919 0.411,0.919 0.411,1.681 -0.351,1.681 -0.351,0.919 ; 2.189,-1.681 2.189,-0.919 2.951,-0.919 2.951,-1.681 2.189,-1.681 ; 2.189,0.919 2.189,1.681 2.951,1.681 2.951,0.919 2.189,0.919 ; 4.729,-1.681 5.491,-1.681 5.491,-0.919 4.729,-0.919 4.729,-1.681 ; 4.729,0.919 5.491,0.919 5.491,1.681 4.729,1.681 4.729,0.919 ; 7.269,-1.681 8.031,-1.681 8.031,-0.919 7.269,-0.919 7.269,-1.681 ; 7.269,0.919 8.031,0.919 8.031,1.681 7.269,1.681 7.269,0.919 ; 9.809,-1.681 10.571,-1.681 10.571,-0.919 9.809,-0.919 9.809,-1.681 ; 9.809,0.919 10.571,0.919 10.571,1.681 9.809,1.681 9.809,0.919 ; 12.289,-1.681 13.051,-1.681 13.051,-0.919 12.289,-0.919 12.289,-1.681 ; 12.289,0.919 13.051,0.919 13.051,1.681 12.289,1.681 12.289,0.919 ; 14.889,-1.681 15.651,-1.681 15.651,-0.919 14.889,-0.919 14.889,-1.681 ; 14.889,0.919 15.651,0.919 15.651,1.681 14.889,1.681 14.889,0.919 ; 17.429,-1.681 17.429,-0.919 18.191,-0.919 18.191,-1.681 17.429,-1.681 ; 17.429,0.919 17.429,1.681 18.191,1.681 18.191,0.919 17.429,0.919
  text "1" at -19.939,0.762 h1.02
  text "2" at -20.193,-1.778 h1.02
  text "29" at 19.558,0.762 h1.02
  text "30" at 19.431,-1.778 h1.02
Mechanical 15:
  circle w0.05: c0,0 r0.35
  lines w0.05: -0.5,0 0.5,0 ; 0,-0.5 0,0.5
3D body "HDR2.54 2x1P_M.STEP": height 5.15, standoff 0, extent -14,-3.2 -11.4,3.2
3D body "HDR2.54 2x1P_M.STEP": height 5.15, standoff 0, extent -16.54,-3.2 -13.94,3.2
3D body "HDR2.54 2x1P_M.STEP": height 5.15, standoff 0, extent -19.08,-3.2 -16.48,3.2
3D body "HDR2.54 2x1P_M.STEP": height 5.15, standoff 0, extent -11.46,-3.2 -8.86,3.2
3D body "HDR2.54 2x1P_M.STEP": height 5.15, standoff 0, extent -8.92,-3.2 -6.32,3.2
3D body "HDR2.54 2x1P_M.STEP": height 5.15, standoff 0, extent -6.38,-3.2 -3.78,3.2
3D body "HDR2.54 2x1P_M.STEP": height 5.15, standoff 0, extent -3.84,-3.2 -1.24,3.2
3D body "HDR2.54 2x1P_M.STEP": height 5.15, standoff 0, extent -1.3,-3.2 1.3,3.2
3D body "HDR2.54 2x1P_M.STEP": height 5.15, standoff 0, extent 1.24,-3.2 3.84,3.2
3D body "HDR2.54 2x1P_M.STEP": height 5.15, standoff 0, extent 3.78,-3.2 6.38,3.2
3D body "HDR2.54 2x1P_M.STEP": height 5.15, standoff 0, extent 6.32,-3.2 8.92,3.2
3D body "HDR2.54 2x1P_M.STEP": height 5.15, standoff 0, extent 8.86,-3.2 11.46,3.2
3D body "HDR2.54 2x1P_M.STEP": height 5.15, standoff 0, extent 11.4,-3.2 14,3.2
3D body "HDR2.54 2x1P_M.STEP": height 5.15, standoff 0, extent 13.94,-3.2 16.54,3.2
3D body "HDR2.54 2x1P_M.STEP": height 5.15, standoff 0, extent 16.48,-3.2 19.08,3.2

## HDR2.54 2x16-M-SMD [mm] "脚距：2.54mm，贴片双排母"
pads (32):
  rect 1.02x1.9 smd: 1(-19.05,2.85) 2(-19.05,-2.85) 3(-16.51,2.85) 4(-16.51,-2.85) 5(-13.97,2.85) 6(-13.97,-2.85) 7(-11.43,2.85) 8(-11.43,-2.85) 9(-8.89,2.85) 10(-8.89,-2.85) 11(-6.35,2.85) 12(-6.35,-2.85) 13(-3.81,2.85) 14(-3.81,-2.85) 15(-1.27,2.85) 16(-1.27,-2.85) 17(1.27,2.85) 18(1.27,-2.85) 19(3.81,2.85) 20(3.81,-2.85) 21(6.35,2.85) 22(6.35,-2.85) 23(8.89,2.85) 24(8.89,-2.85) 25(11.43,2.85) 26(11.43,-2.85) 27(13.97,2.85) 28(13.97,-2.85) 29(16.51,2.85) 30(16.51,-2.85) 31(19.05,2.85) 32(19.05,-2.85)
Top Overlay:
  lines w0.2: -20.39,-2.6 20.38,-2.6 20.38,2.6 -20.39,2.6 -20.39,-2.6 ; -19.461,-1.681 -19.461,-0.919 -18.699,-0.919 -18.699,-1.681 -19.461,-1.681 ; -19.461,0.919 -19.461,1.681 -18.699,1.681 -18.699,0.919 -19.461,0.919 ; -16.861,-1.681 -16.861,-0.919 -16.099,-0.919 -16.099,-1.681 -16.861,-1.681 ; -16.861,0.919 -16.861,1.681 -16.099,1.681 -16.099,0.919 -16.861,0.919 ; -14.321,-1.681 -13.559,-1.681 -13.559,-0.919 -14.321,-0.919 -14.321,-1.681 ; -14.321,0.919 -13.559,0.919 -13.559,1.681 -14.321,1.681 -14.321,0.919 ; -11.781,-1.681 -11.781,-0.919 -11.019,-0.919 -11.019,-1.681 -11.781,-1.681 ; -11.781,0.919 -11.781,1.681 -11.019,1.681 -11.019,0.919 -11.781,0.919 ; -9.241,-1.681 -9.241,-0.919 -8.479,-0.919 -8.479,-1.681 -9.241,-1.681 ; -9.241,0.919 -9.241,1.681 -8.479,1.681 -8.479,0.919 -9.241,0.919 ; -6.701,-1.681 -6.701,-0.919 -5.939,-0.919 -5.939,-1.681 -6.701,-1.681 ; -6.701,0.919 -6.701,1.681 -5.939,1.681 -5.939,0.919 -6.701,0.919 ; -4.221,-1.681 -3.459,-1.681 -3.459,-0.919 -4.221,-0.919 -4.221,-1.681 ; -4.221,0.919 -3.459,0.919 -3.459,1.681 -4.221,1.681 -4.221,0.919 ; -1.621,-1.681 -0.859,-1.681 -0.859,-0.919 -1.621,-0.919 -1.621,-1.681 ; -1.621,0.919 -0.859,0.919 -0.859,1.681 -1.621,1.681 -1.621,0.919 ; 0.919,-1.681 0.919,-0.919 1.681,-0.919 1.681,-1.681 0.919,-1.681 ; 0.919,0.919 0.919,1.681 1.681,1.681 1.681,0.919 0.919,0.919 ; 3.459,-1.681 4.221,-1.681 4.221,-0.919 3.459,-0.919 3.459,-1.681 ; 3.459,0.919 4.221,0.919 4.221,1.681 3.459,1.681 3.459,0.919 ; 5.999,-1.681 6.761,-1.681 6.761,-0.919 5.999,-0.919 5.999,-1.681 ; 5.999,0.919 6.761,0.919 6.761,1.681 5.999,1.681 5.999,0.919 ; 8.539,-1.681 9.301,-1.681 9.301,-0.919 8.539,-0.919 8.539,-1.681 ; 8.539,0.919 9.301,0.919 9.301,1.681 8.539,1.681 8.539,0.919 ; 11.019,-1.681 11.781,-1.681 11.781,-0.919 11.019,-0.919 11.019,-1.681 ; 11.019,0.919 11.781,0.919 11.781,1.681 11.019,1.681 11.019,0.919 ; 13.619,-1.681 14.381,-1.681 14.381,-0.919 13.619,-0.919 13.619,-1.681 ; 13.619,0.919 14.381,0.919 14.381,1.681 13.619,1.681 13.619,0.919 ; 16.159,-1.681 16.159,-0.919 16.921,-0.919 16.921,-1.681 16.159,-1.681 ; 16.159,0.919 16.159,1.681 16.921,1.681 16.921,0.919 16.159,0.919 ; 18.699,-1.681 19.461,-1.681 19.461,-0.919 18.699,-0.919 18.699,-1.681 ; 18.699,0.919 19.461,0.919 19.461,1.681 18.699,1.681 18.699,0.919
  text "32" at 20.701,-1.778 h1.02
  text "31" at 20.828,0.762 h1.02
  text "1" at -21.209,0.762 h1.02
  text "2" at -21.463,-1.778 h1.02
Mechanical 15:
  circle w0.05: c0,0 r0.35
  lines w0.05: -0.5,0 0.5,0 ; 0,-0.5 0,0.5
3D body "HDR2.54 2x1P_M.STEP": height 5.15, standoff 0, extent -15.27,-3.2 -12.67,3.2
3D body "HDR2.54 2x1P_M.STEP": height 5.15, standoff 0, extent -17.81,-3.2 -15.21,3.2
3D body "HDR2.54 2x1P_M.STEP": height 5.15, standoff 0, extent -20.35,-3.2 -17.75,3.2
3D body "HDR2.54 2x1P_M.STEP": height 5.15, standoff 0, extent -12.73,-3.2 -10.13,3.2
3D body "HDR2.54 2x1P_M.STEP": height 5.15, standoff 0, extent -10.19,-3.2 -7.59,3.2
3D body "HDR2.54 2x1P_M.STEP": height 5.15, standoff 0, extent -7.65,-3.2 -5.05,3.2
3D body "HDR2.54 2x1P_M.STEP": height 5.15, standoff 0, extent -5.11,-3.2 -2.51,3.2
3D body "HDR2.54 2x1P_M.STEP": height 5.15, standoff 0, extent -2.57,-3.2 0.03,3.2
3D body "HDR2.54 2x1P_M.STEP": height 5.15, standoff 0, extent -0.03,-3.2 2.57,3.2
3D body "HDR2.54 2x1P_M.STEP": height 5.15, standoff 0, extent 2.51,-3.2 5.11,3.2
3D body "HDR2.54 2x1P_M.STEP": height 5.15, standoff 0, extent 5.05,-3.2 7.65,3.2
3D body "HDR2.54 2x1P_M.STEP": height 5.15, standoff 0, extent 7.59,-3.2 10.19,3.2
3D body "HDR2.54 2x1P_M.STEP": height 5.15, standoff 0, extent 10.13,-3.2 12.73,3.2
3D body "HDR2.54 2x1P_M.STEP": height 5.15, standoff 0, extent 12.67,-3.2 15.27,3.2
3D body "HDR2.54 2x1P_M.STEP": height 5.15, standoff 0, extent 15.21,-3.2 17.81,3.2
3D body "HDR2.54 2x1P_M.STEP": height 5.15, standoff 0, extent 17.75,-3.2 20.35,3.2

## HDR2.54 2x17-M-SMD [mm] "脚距：2.54mm，贴片双排母"
pads (34):
  rect 1.02x1.9 smd: 1(-20.32,2.85) 2(-20.32,-2.85) 3(-17.78,2.85) 4(-17.78,-2.85) 5(-15.24,2.85) 6(-15.24,-2.85) 7(-12.7,2.85) 8(-12.7,-2.85) 9(-10.16,2.85) 10(-10.16,-2.85) 11(-7.62,2.85) 12(-7.62,-2.85) 13(-5.08,2.85) 14(-5.08,-2.85) 15(-2.54,2.85) 16(-2.54,-2.85) 17(0,2.85) 18(0,-2.85) 19(2.54,2.85) 20(2.54,-2.85) 21(5.08,2.85) 22(5.08,-2.85) 23(7.62,2.85) 24(7.62,-2.85) 25(10.16,2.85) 26(10.16,-2.85) 27(12.7,2.85) 28(12.7,-2.85) 29(15.24,2.85) 30(15.24,-2.85) 31(17.78,2.85) 32(17.78,-2.85) 33(20.32,2.85) 34(20.32,-2.85)
Top Overlay:
  lines w0.2: -21.66,-2.6 21.65,-2.6 21.65,2.6 -21.66,2.6 -21.66,-2.6 ; -20.731,-1.681 -19.969,-1.681 -19.969,-0.919 -20.731,-0.919 -20.731,-1.681 ; -20.731,0.919 -19.969,0.919 -19.969,1.681 -20.731,1.681 -20.731,0.919 ; -18.131,-1.681 -17.369,-1.681 -17.369,-0.919 -18.131,-0.919 -18.131,-1.681 ; -18.131,0.919 -17.369,0.919 -17.369,1.681 -18.131,1.681 -18.131,0.919 ; -15.591,-1.681 -15.591,-0.919 -14.829,-0.919 -14.829,-1.681 -15.591,-1.681 ; -15.591,0.919 -15.591,1.681 -14.829,1.681 -14.829,0.919 -15.591,0.919 ; -13.051,-1.681 -12.289,-1.681 -12.289,-0.919 -13.051,-0.919 -13.051,-1.681 ; -13.051,0.919 -12.289,0.919 -12.289,1.681 -13.051,1.681 -13.051,0.919 ; -10.511,-1.681 -9.749,-1.681 -9.749,-0.919 -10.511,-0.919 -10.511,-1.681 ; -10.511,0.919 -9.749,0.919 -9.749,1.681 -10.511,1.681 -10.511,0.919 ; -7.971,-1.681 -7.209,-1.681 -7.209,-0.919 -7.971,-0.919 -7.971,-1.681 ; -7.971,0.919 -7.209,0.919 -7.209,1.681 -7.971,1.681 -7.971,0.919 ; -5.491,-1.681 -5.491,-0.919 -4.729,-0.919 -4.729,-1.681 -5.491,-1.681 ; -5.491,0.919 -5.491,1.681 -4.729,1.681 -4.729,0.919 -5.491,0.919 ; -2.891,-1.681 -2.891,-0.919 -2.129,-0.919 -2.129,-1.681 -2.891,-1.681 ; -2.891,0.919 -2.891,1.681 -2.129,1.681 -2.129,0.919 -2.891,0.919 ; -0.351,-1.681 0.411,-1.681 0.411,-0.919 -0.351,-0.919 -0.351,-1.681 ; -0.351,0.919 0.411,0.919 0.411,1.681 -0.351,1.681 -0.351,0.919 ; 2.189,-1.681 2.189,-0.919 2.951,-0.919 2.951,-1.681 2.189,-1.681 ; 2.189,0.919 2.189,1.681 2.951,1.681 2.951,0.919 2.189,0.919 ; 4.729,-1.681 4.729,-0.919 5.491,-0.919 5.491,-1.681 4.729,-1.681 ; 4.729,0.919 4.729,1.681 5.491,1.681 5.491,0.919 4.729,0.919 ; 7.269,-1.681 7.269,-0.919 8.031,-0.919 8.031,-1.681 7.269,-1.681 ; 7.269,0.919 7.269,1.681 8.031,1.681 8.031,0.919 7.269,0.919 ; 9.749,-1.681 9.749,-0.919 10.511,-0.919 10.511,-1.681 9.749,-1.681 ; 9.749,0.919 9.749,1.681 10.511,1.681 10.511,0.919 9.749,0.919 ; 12.349,-1.681 12.349,-0.919 13.111,-0.919 13.111,-1.681 12.349,-1.681 ; 12.349,0.919 12.349,1.681 13.111,1.681 13.111,0.919 12.349,0.919 ; 14.889,-1.681 15.651,-1.681 15.651,-0.919 14.889,-0.919 14.889,-1.681 ; 14.889,0.919 15.651,0.919 15.651,1.681 14.889,1.681 14.889,0.919 ; 17.429,-1.681 17.429,-0.919 18.191,-0.919 18.191,-1.681 17.429,-1.681 ; 17.429,0.919 17.429,1.681 18.191,1.681 18.191,0.919 17.429,0.919 ; 19.969,-1.681 19.969,-0.919 20.731,-0.919 20.731,-1.681 19.969,-1.681 ; 19.969,0.919 19.969,1.681 20.731,1.681 20.731,0.919 19.969,0.919
  text "2" at -22.733,-1.778 h1.02
  text "1" at -22.479,0.762 h1.02
  text "34" at 21.971,-1.778 h1.02
  text "33" at 22.098,0.762 h1.02
Mechanical 15:
  circle w0.05: c0,0 r0.35
  lines w0.05: -0.5,0 0.5,0 ; 0,-0.5 0,0.5
3D body "HDR2.54 2x1P_M.STEP": height 5.15, standoff 0, extent 19.02,-3.2 21.62,3.2
3D body "HDR2.54 2x1P_M.STEP": height 5.15, standoff 0, extent 16.48,-3.2 19.08,3.2
3D body "HDR2.54 2x1P_M.STEP": height 5.15, standoff 0, extent 13.94,-3.2 16.54,3.2
3D body "HDR2.54 2x1P_M.STEP": height 5.15, standoff 0, extent 11.4,-3.2 14,3.2
3D body "HDR2.54 2x1P_M.STEP": height 5.15, standoff 0, extent 8.86,-3.2 11.46,3.2
3D body "HDR2.54 2x1P_M.STEP": height 5.15, standoff 0, extent 6.32,-3.2 8.92,3.2
3D body "HDR2.54 2x1P_M.STEP": height 5.15, standoff 0, extent 3.78,-3.2 6.38,3.2
3D body "HDR2.54 2x1P_M.STEP": height 5.15, standoff 0, extent 1.24,-3.2 3.84,3.2
3D body "HDR2.54 2x1P_M.STEP": height 5.15, standoff 0, extent -1.3,-3.2 1.3,3.2
3D body "HDR2.54 2x1P_M.STEP": height 5.15, standoff 0, extent -3.84,-3.2 -1.24,3.2
3D body "HDR2.54 2x1P_M.STEP": height 5.15, standoff 0, extent -6.38,-3.2 -3.78,3.2
3D body "HDR2.54 2x1P_M.STEP": height 5.15, standoff 0, extent -8.92,-3.2 -6.32,3.2
3D body "HDR2.54 2x1P_M.STEP": height 5.15, standoff 0, extent -11.46,-3.2 -8.86,3.2
3D body "HDR2.54 2x1P_M.STEP": height 5.15, standoff 0, extent -14,-3.2 -11.4,3.2
3D body "HDR2.54 2x1P_M.STEP": height 5.15, standoff 0, extent -21.62,-3.2 -19.02,3.2
3D body "HDR2.54 2x1P_M.STEP": height 5.15, standoff 0, extent -19.08,-3.2 -16.48,3.2
3D body "HDR2.54 2x1P_M.STEP": height 5.15, standoff 0, extent -16.54,-3.2 -13.94,3.2

## HDR2.54 2x18-M-SMD [mm] "脚距：2.54mm，贴片双排母"
pads (36):
  rect 1.02x1.9 smd: 1(-21.59,2.85) 2(-21.59,-2.85) 3(-19.05,2.85) 4(-19.05,-2.85) 5(-16.51,2.85) 6(-16.51,-2.85) 7(-13.97,2.85) 8(-13.97,-2.85) 9(-11.43,2.85) 10(-11.43,-2.85) 11(-8.89,2.85) 12(-8.89,-2.85) 13(-6.35,2.85) 14(-6.35,-2.85) 15(-3.81,2.85) 16(-3.81,-2.85) 17(-1.27,2.85) 18(-1.27,-2.85) 19(1.27,2.85) 20(1.27,-2.85) 21(3.81,2.85) 22(3.81,-2.85) 23(6.35,2.85) 24(6.35,-2.85) 25(8.89,2.85) 26(8.89,-2.85) 27(11.43,2.85) 28(11.43,-2.85) 29(13.97,2.85) 30(13.97,-2.85) 31(16.51,2.85) 32(16.51,-2.85) 33(19.05,2.85) 34(19.05,-2.85) 35(21.59,2.85) 36(21.59,-2.85)
Top Overlay:
  lines w0.2: -22.93,-2.6 22.92,-2.6 22.92,2.6 -22.93,2.6 -22.93,-2.6 ; -22.001,-1.681 -22.001,-0.919 -21.239,-0.919 -21.239,-1.681 -22.001,-1.681 ; -22.001,0.919 -22.001,1.681 -21.239,1.681 -21.239,0.919 -22.001,0.919 ; -19.401,-1.681 -19.401,-0.919 -18.639,-0.919 -18.639,-1.681 -19.401,-1.681 ; -19.401,0.919 -19.401,1.681 -18.639,1.681 -18.639,0.919 -19.401,0.919 ; -16.861,-1.681 -16.099,-1.681 -16.099,-0.919 -16.861,-0.919 -16.861,-1.681 ; -16.861,0.919 -16.099,0.919 -16.099,1.681 -16.861,1.681 -16.861,0.919 ; -14.321,-1.681 -14.321,-0.919 -13.559,-0.919 -13.559,-1.681 -14.321,-1.681 ; -14.321,0.919 -14.321,1.681 -13.559,1.681 -13.559,0.919 -14.321,0.919 ; -11.781,-1.681 -11.781,-0.919 -11.019,-0.919 -11.019,-1.681 -11.781,-1.681 ; -11.781,0.919 -11.781,1.681 -11.019,1.681 -11.019,0.919 -11.781,0.919 ; -9.241,-1.681 -9.241,-0.919 -8.479,-0.919 -8.479,-1.681 -9.241,-1.681 ; -9.241,0.919 -9.241,1.681 -8.479,1.681 -8.479,0.919 -9.241,0.919 ; -6.761,-1.681 -5.999,-1.681 -5.999,-0.919 -6.761,-0.919 -6.761,-1.681 ; -6.761,0.919 -5.999,0.919 -5.999,1.681 -6.761,1.681 -6.761,0.919 ; -4.161,-1.681 -3.399,-1.681 -3.399,-0.919 -4.161,-0.919 -4.161,-1.681 ; -4.161,0.919 -3.399,0.919 -3.399,1.681 -4.161,1.681 -4.161,0.919 ; -1.621,-1.681 -1.621,-0.919 -0.859,-0.919 -0.859,-1.681 -1.621,-1.681 ; -1.621,0.919 -1.621,1.681 -0.859,1.681 -0.859,0.919 -1.621,0.919 ; 0.919,-1.681 1.681,-1.681 1.681,-0.919 0.919,-0.919 0.919,-1.681 ; 0.919,0.919 1.681,0.919 1.681,1.681 0.919,1.681 0.919,0.919 ; 3.459,-1.681 4.221,-1.681 4.221,-0.919 3.459,-0.919 3.459,-1.681 ; 3.459,0.919 4.221,0.919 4.221,1.681 3.459,1.681 3.459,0.919 ; 5.999,-1.681 6.761,-1.681 6.761,-0.919 5.999,-0.919 5.999,-1.681 ; 5.999,0.919 6.761,0.919 6.761,1.681 5.999,1.681 5.999,0.919 ; 8.479,-1.681 9.241,-1.681 9.241,-0.919 8.479,-0.919 8.479,-1.681 ; 8.479,0.919 9.241,0.919 9.241,1.681 8.479,1.681 8.479,0.919 ; 11.079,-1.681 11.841,-1.681 11.841,-0.919 11.079,-0.919 11.079,-1.681 ; 11.079,0.919 11.841,0.919 11.841,1.681 11.079,1.681 11.079,0.919 ; 13.619,-1.681 13.619,-0.919 14.381,-0.919 14.381,-1.681 13.619,-1.681 ; 13.619,0.919 13.619,1.681 14.381,1.681 14.381,0.919 13.619,0.919 ; 16.159,-1.681 16.921,-1.681 16.921,-0.919 16.159,-0.919 16.159,-1.681 ; 16.159,0.919 16.921,0.919 16.921,1.681 16.159,1.681 16.159,0.919 ; 18.699,-1.681 19.461,-1.681 19.461,-0.919 18.699,-0.919 18.699,-1.681 ; 18.699,0.919 19.461,0.919 19.461,1.681 18.699,1.681 18.699,0.919 ; 21.239,-1.681 22.001,-1.681 22.001,-0.919 21.239,-0.919 21.239,-1.681 ; 21.239,0.919 22.001,0.919 22.001,1.681 21.239,1.681 21.239,0.919
  text "1" at -23.749,0.762 h1.02
  text "2" at -24.003,-1.778 h1.02
  text "36" at 23.241,-1.778 h1.02
  text "35" at 23.368,0.762 h1.02
Mechanical 15:
  circle w0.05: c0,0 r0.35
  lines w0.05: -0.5,0 0.5,0 ; 0,-0.5 0,0.5
3D body "HDR2.54 2x1P_M.STEP": height 5.15, standoff 0, extent -17.81,-3.2 -15.21,3.2
3D body "HDR2.54 2x1P_M.STEP": height 5.15, standoff 0, extent -20.35,-3.2 -17.75,3.2
3D body "HDR2.54 2x1P_M.STEP": height 5.15, standoff 0, extent -22.89,-3.2 -20.29,3.2
3D body "HDR2.54 2x1P_M.STEP": height 5.15, standoff 0, extent -15.27,-3.2 -12.67,3.2
3D body "HDR2.54 2x1P_M.STEP": height 5.15, standoff 0, extent -12.73,-3.2 -10.13,3.2
3D body "HDR2.54 2x1P_M.STEP": height 5.15, standoff 0, extent -10.19,-3.2 -7.59,3.2
3D body "HDR2.54 2x1P_M.STEP": height 5.15, standoff 0, extent -7.65,-3.2 -5.05,3.2
3D body "HDR2.54 2x1P_M.STEP": height 5.15, standoff 0, extent -5.11,-3.2 -2.51,3.2
3D body "HDR2.54 2x1P_M.STEP": height 5.15, standoff 0, extent -2.57,-3.2 0.03,3.2
3D body "HDR2.54 2x1P_M.STEP": height 5.15, standoff 0, extent -0.03,-3.2 2.57,3.2
3D body "HDR2.54 2x1P_M.STEP": height 5.15, standoff 0, extent 2.51,-3.2 5.11,3.2
3D body "HDR2.54 2x1P_M.STEP": height 5.15, standoff 0, extent 5.05,-3.2 7.65,3.2
3D body "HDR2.54 2x1P_M.STEP": height 5.15, standoff 0, extent 7.59,-3.2 10.19,3.2
3D body "HDR2.54 2x1P_M.STEP": height 5.15, standoff 0, extent 10.13,-3.2 12.73,3.2
3D body "HDR2.54 2x1P_M.STEP": height 5.15, standoff 0, extent 12.67,-3.2 15.27,3.2
3D body "HDR2.54 2x1P_M.STEP": height 5.15, standoff 0, extent 15.21,-3.2 17.81,3.2
3D body "HDR2.54 2x1P_M.STEP": height 5.15, standoff 0, extent 17.75,-3.2 20.35,3.2
3D body "HDR2.54 2x1P_M.STEP": height 5.15, standoff 0, extent 20.29,-3.2 22.89,3.2

## HDR2.54 2x19-M-SMD [mm] "脚距：2.54mm，贴片双排母"
pads (38):
  rect 1.02x1.9 smd: 1(-22.86,2.85) 2(-22.86,-2.85) 3(-20.32,2.85) 4(-20.32,-2.85) 5(-17.78,2.85) 6(-17.78,-2.85) 7(-15.24,2.85) 8(-15.24,-2.85) 9(-12.7,2.85) 10(-12.7,-2.85) 11(-10.16,2.85) 12(-10.16,-2.85) 13(-7.62,2.85) 14(-7.62,-2.85) 15(-5.08,2.85) 16(-5.08,-2.85) 17(-2.54,2.85) 18(-2.54,-2.85) 19(0,2.85) 20(0,-2.85) 21(2.54,2.85) 22(2.54,-2.85) 23(5.08,2.85) 24(5.08,-2.85) 25(7.62,2.85) 26(7.62,-2.85) 27(10.16,2.85) 28(10.16,-2.85) 29(12.7,2.85) 30(12.7,-2.85) 31(15.24,2.85) 32(15.24,-2.85) 33(17.78,2.85) 34(17.78,-2.85) 35(20.32,2.85) 36(20.32,-2.85) 37(22.86,2.85) 38(22.86,-2.85)
Top Overlay:
  drawing of 156 lines, arcs and shapes, not listed
  text "2" at -25.273,-1.778 h1.02
  text "1" at -25.019,0.762 h1.02
  text "38" at 24.511,-1.778 h1.02
  text "37" at 24.638,0.762 h1.02
Mechanical 15:
  circle w0.05: c0,0 r0.35
  lines w0.05: -0.5,0 0.5,0 ; 0,-0.5 0,0.5
3D body "HDR2.54 2x1P_M.STEP": height 5.15, standoff 0, extent 21.56,-3.2 24.16,3.2
3D body "HDR2.54 2x1P_M.STEP": height 5.15, standoff 0, extent 19.02,-3.2 21.62,3.2
3D body "HDR2.54 2x1P_M.STEP": height 5.15, standoff 0, extent 16.48,-3.2 19.08,3.2
3D body "HDR2.54 2x1P_M.STEP": height 5.15, standoff 0, extent 13.94,-3.2 16.54,3.2
3D body "HDR2.54 2x1P_M.STEP": height 5.15, standoff 0, extent 11.4,-3.2 14,3.2
3D body "HDR2.54 2x1P_M.STEP": height 5.15, standoff 0, extent 8.86,-3.2 11.46,3.2
3D body "HDR2.54 2x1P_M.STEP": height 5.15, standoff 0, extent 6.32,-3.2 8.92,3.2
3D body "HDR2.54 2x1P_M.STEP": height 5.15, standoff 0, extent 3.78,-3.2 6.38,3.2
3D body "HDR2.54 2x1P_M.STEP": height 5.15, standoff 0, extent 1.24,-3.2 3.84,3.2
3D body "HDR2.54 2x1P_M.STEP": height 5.15, standoff 0, extent -1.3,-3.2 1.3,3.2
3D body "HDR2.54 2x1P_M.STEP": height 5.15, standoff 0, extent -3.84,-3.2 -1.24,3.2
3D body "HDR2.54 2x1P_M.STEP": height 5.15, standoff 0, extent -6.38,-3.2 -3.78,3.2
3D body "HDR2.54 2x1P_M.STEP": height 5.15, standoff 0, extent -8.92,-3.2 -6.32,3.2
3D body "HDR2.54 2x1P_M.STEP": height 5.15, standoff 0, extent -11.46,-3.2 -8.86,3.2
3D body "HDR2.54 2x1P_M.STEP": height 5.15, standoff 0, extent -14,-3.2 -11.4,3.2
3D body "HDR2.54 2x1P_M.STEP": height 5.15, standoff 0, extent -16.54,-3.2 -13.94,3.2
3D body "HDR2.54 2x1P_M.STEP": height 5.15, standoff 0, extent -24.16,-3.2 -21.56,3.2
3D body "HDR2.54 2x1P_M.STEP": height 5.15, standoff 0, extent -21.62,-3.2 -19.02,3.2
3D body "HDR2.54 2x1P_M.STEP": height 5.15, standoff 0, extent -19.08,-3.2 -16.48,3.2